# Altium schematic symbol library mini_USB_connector.SchLib: 1 symbol
Pins are listed as number, name and electrical type; pins without a type are passive.

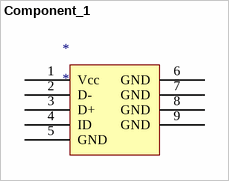
[diagram p0: symbol Component_1]

## Component_1
designator *
footprint Mini B usb
pins: 1 Vcc, 2 D-, 3 D+, 4 ID, 5 GND, 6 GND, 7 GND, 8 GND, 9 GND